# Altium footprint library Motorized_Blinds_PcbLib.PcbLib: 34 footprints (part 2 of 3)
Each footprint in its own frame and in the unit in brackets; x right, y up, seen from the top. Pads: shape width x height; smd on the part's side, far side on the other; paste and mask are expansions set on the pad; w line width, h text height; cw(c..) or ccw(c..) is an arc to the next point about the centre after c.
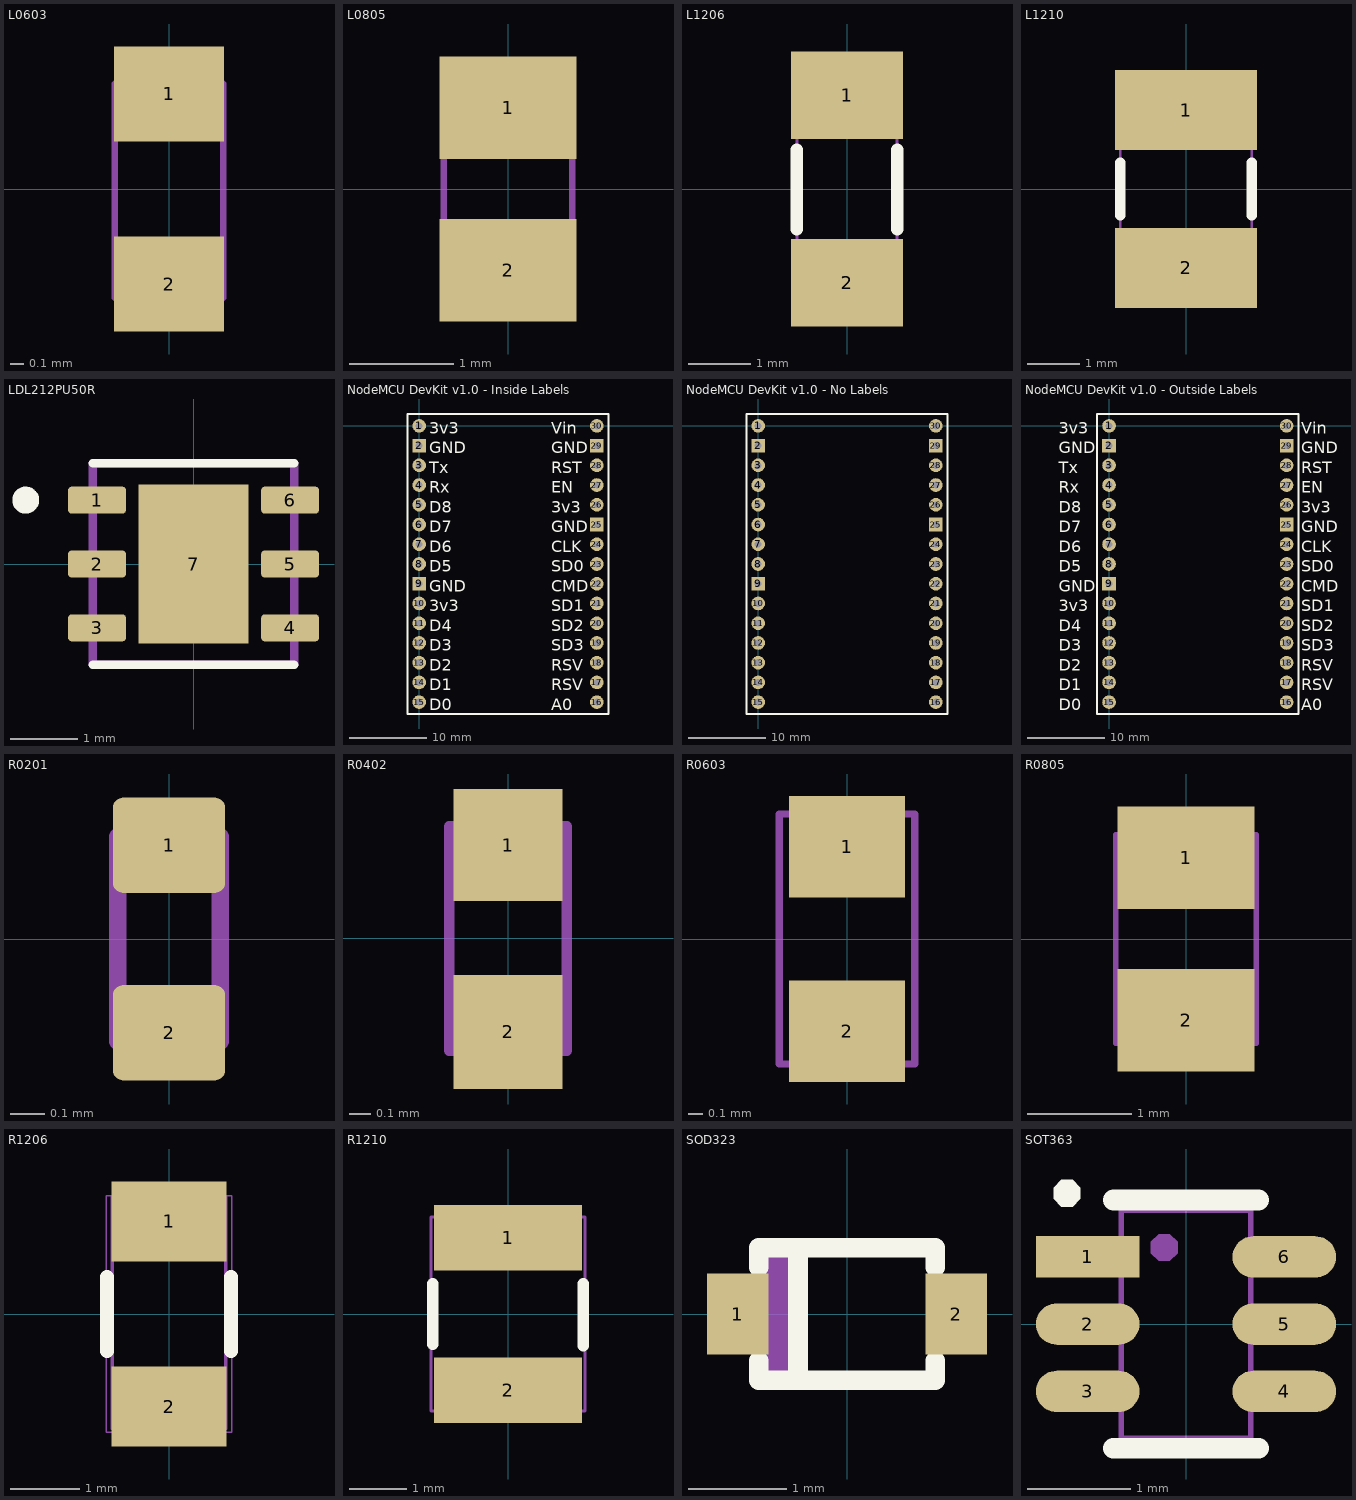
[diagram p1: the footprints below, top view; thin cyan lines are the x and y axes]

## L0603 [mm]
height 0.9
pads (2):
  rect 0.81x0.7 smd: 1(0,0.7) 2(0,-0.7)
Mechanical 3:
  lines w0.051: -0.4,-0.8 0.4,-0.8 0.4,0.775 -0.4,0.775 -0.4,-0.8
  text ".Designator" at 0.65,-0.95 h0.77
Mechanical 20:
  lines w0.025: -0.4,-0.8 0.4,-0.8 0.4,0.775 -0.4,0.775 -0.4,-0.8
3D body "0603 Ferrite bead.SLDPRT": height 0.81, standoff 0.01, extent -0.4,-0.8 0.4,0.8

## L0805 [mm]
height 1.4
pads (2):
  rect 1.32x0.98 smd: 1(0,0.78) 2(0,-0.78)
Mechanical 3:
  lines w0.051: -0.625,-1 0.625,-1 0.625,1 -0.625,1 -0.625,-1
  text ".Designator" at 0.65,-1.2 h0.84
Mechanical 20:
  lines w0.025: -0.6,-1 0.6,-1 0.6,1 -0.6,1 -0.6,-1
3D body "0805 Ferrite bead.SLDPRT": height 0.91, standoff 0.01, extent -0.6,-1 0.6,1

## L1206 [mm]
height 1.78
pads (2):
  rect 1.8x1.4 smd: 1(0,1.5) 2(0,-1.5)
Top Overlay:
  lines w0.2: -0.8,-0.645 -0.8,0.625 ; 0.8,-0.645 0.8,0.625
Mechanical 3:
  lines w0.051: -0.8,-1.6 -0.8,1.6 0.8,1.6 0.8,-1.6 -0.8,-1.6
  text ".Designator" at 0.65,-1.9 h0.77
Mechanical 20:
  lines w0.025: -0.8,-1.6 -0.8,1.625 0.8,1.625 0.8,-1.6 -0.8,-1.6
3D body "1206 Ferrite bead.SLDPRT": height 1.31, standoff 0.01, extent -0.8,-1.6 0.8,1.6

## L1210 [mm]
height 2.29
pads (2):
  rect 2.7x1.52 smd: 1(0,1.5) 2(0,-1.5)
Top Overlay:
  lines w0.2: -1.25,-0.5 -1.25,0.5 ; 1.25,-0.5 1.25,0.5
Mechanical 3:
  lines w0.051: -1.25,-1.6 -1.25,1.6 1.25,1.6 1.25,-1.6 -1.25,-1.6
  text ".Designator" at 0.7,-1.8 h0.77
Mechanical 20:
  lines w0.025: -1.25,-1.6 -1.25,1.6 1.25,1.6 1.25,-1.6 -1.25,-1.6
3D body "1210 Ferrite bead.SLDPRT": height 1.31, standoff 0.01, extent -1.25,-1.6 1.25,1.6

## LDL212PU50R [mm] "IC REG LINEAR 5V 1.2A 6DFN"
height 0.9
pads (7):
  rrect25% 0.86x0.4 smd: 1(-1.435,0.95) 2(-1.435,0) 3(-1.435,-0.95) 4(1.435,-0.95) 5(1.435,0) 6(1.435,0.95)
  rect 1.63x2.37 smd paste-2: 7(0,0)
Top Overlay:
  circle w0.2: c-2.495,0.95 r0.1
  lines w0.127: -1.5,-1.5 1.5,-1.5 ; -1.5,1.5 1.5,1.5
Mechanical 3:
  lines w0.127: -1.5,-1.5 1.5,-1.5 1.5,1.5 -1.5,1.5 -1.5,-1.5
  text ".Designator" at -0.656,-0.017 h0.44
3D body "step_temp.STEP": height 1.04, standoff 0.04, extent -1.5,-1.5 1.5,1.5

## NodeMCU DevKit v1.0 - Inside Labels [mil]
pads (30):
  round 69 hole 35: 1(0,0) 3(0,-200) 4(0,-300) 5(0,-400) 6(0,-500) 7(0,-600) 8(0,-700) 10(0,-900) 11(0,-1000) 12(0,-1100) 13(0,-1200) 14(0,-1300) 15(0,-1400) 16(900,-1400) 17(900,-1300) 18(900,-1200) 19(900,-1100) 20(900,-1000) 21(900,-900) 22(900,-800) 23(900,-700) 24(900,-600) 26(900,-400) 27(900,-300) 28(900,-200) 30(900,0)
  rect 69x69 hole 35: 2(0,-100) 9(0,-800) 25(900,-500) 29(900,-100)
Top Overlay:
  lines w10: -60,-1460 -60,60 960,60 960,-1460 -60,-1460
  text "3v3" at 50,-39.99 h60
  text "GND" at 50,-139.99 h60
  text "Tx" at 50,-239.99 h60
  text "Rx" at 50,-339.99 h60
  text "D8" at 50,-439.99 h60
  text "D7" at 50,-539.99 h60
  text "D6" at 50,-639.99 h60
  text "D5" at 50,-739.99 h60
  text "GND" at 50,-839.99 h60
  text "3v3" at 50,-939.99 h60
  text "D4" at 50,-1039.99 h60
  text "D3" at 50,-1139.99 h60
  text "D2" at 50,-1239.99 h60
  text "D1" at 50,-1339.99 h60
  text "D0" at 50,-1439.99 h60
  text "A0" at 670,-1439.99 h60
  text "RSV" at 670,-1339.99 h60
  text "RSV" at 670,-1239.99 h60
  text "SD3" at 670,-1139.99 h60
  text "SD2" at 670,-1039.99 h60
  text "SD1" at 670,-939.99 h60
  text "CMD" at 670,-839.99 h60
  text "SD0" at 670,-739.99 h60
  text "CLK" at 670,-639.99 h60
  text "GND" at 670,-539.99 h60
  text "3v3" at 670,-439.99 h60
  text "EN" at 670,-339.99 h60
  text "RST" at 670,-239.99 h60
  text "GND" at 670,-139.99 h60
  text "Vin" at 670,-39.99 h60

## NodeMCU DevKit v1.0 - No Labels [mil]
pads (30):
  round 69 hole 35: 1(0,0) 3(0,-200) 4(0,-300) 5(0,-400) 6(0,-500) 7(0,-600) 8(0,-700) 10(0,-900) 11(0,-1000) 12(0,-1100) 13(0,-1200) 14(0,-1300) 15(0,-1400) 16(900,-1400) 17(900,-1300) 18(900,-1200) 19(900,-1100) 20(900,-1000) 21(900,-900) 22(900,-800) 23(900,-700) 24(900,-600) 26(900,-400) 27(900,-300) 28(900,-200) 30(900,0)
  rect 69x69 hole 35: 2(0,-100) 9(0,-800) 25(900,-500) 29(900,-100)
Top Overlay:
  lines w10: -60,-1460 -60,60 960,60 960,-1460 -60,-1460

## NodeMCU DevKit v1.0 - Outside Labels [mil]
pads (30):
  round 69 hole 35: 1(0,0) 3(0,-200) 4(0,-300) 5(0,-400) 6(0,-500) 7(0,-600) 8(0,-700) 10(0,-900) 11(0,-1000) 12(0,-1100) 13(0,-1200) 14(0,-1300) 15(0,-1400) 16(900,-1400) 17(900,-1300) 18(900,-1200) 19(900,-1100) 20(900,-1000) 21(900,-900) 22(900,-800) 23(900,-700) 24(900,-600) 26(900,-400) 27(900,-300) 28(900,-200) 30(900,0)
  rect 69x69 hole 35: 2(0,-100) 9(0,-800) 25(900,-500) 29(900,-100)
Top Overlay:
  lines w10: -60,-1460 -60,60 960,60 960,-1460 -60,-1460
  text "A0" at 975,-1439.99 h60
  text "RSV" at 975,-1339.99 h60
  text "RSV" at 975,-1239.99 h60
  text "SD3" at 975,-1139.99 h60
  text "SD2" at 975,-1039.99 h60
  text "SD1" at 975,-939.99 h60
  text "CMD" at 975,-839.99 h60
  text "SD0" at 975,-739.99 h60
  text "CLK" at 975,-639.99 h60
  text "GND" at 975,-539.99 h60
  text "3v3" at 975,-439.99 h60
  text "EN" at 975,-339.99 h60
  text "RST" at 975,-239.99 h60
  text "GND" at 975,-139.99 h60
  text "Vin" at 975,-39.99 h60
  text "3v3" at -255,-39.99 h60
  text "GND" at -255,-139.99 h60
  text "Tx" at -255,-239.99 h60
  text "Rx" at -255,-339.99 h60
  text "D8" at -255,-439.99 h60
  text "D7" at -255,-539.99 h60
  text "D6" at -255,-639.99 h60
  text "D5" at -255,-739.99 h60
  text "GND" at -255,-839.99 h60
  text "3v3" at -255,-939.99 h60
  text "D4" at -255,-1039.99 h60
  text "D3" at -255,-1139.99 h60
  text "D2" at -255,-1239.99 h60
  text "D1" at -255,-1339.99 h60
  text "D0" at -255,-1439.99 h60

## R0201 [mm]
height 0.33
pads (2):
  rrect22% 0.33x0.28 smd: 1(0,0.275) 2(0,-0.275)
Mechanical 3:
  lines w0.051: -0.15,-0.3 -0.15,0.3 0.15,0.3 0.15,-0.3 -0.15,-0.3
  text ".Designator" at 0.39,-0.432 h0.44
Mechanical 20:
  lines w0.025: -0.15,-0.3 0.15,-0.3 0.15,0.3 -0.15,0.3 -0.15,-0.3
3D body "User Library-Resistors0201.STEP": height 0.24, standoff -0.01, extent -0.162,-0.325 0.162,0.325

## R0402 [mm]
height 0.4
pads (2):
  rect 0.51x0.525 smd: 1(0,0.437)
  rect 0.51x0.535 smd: 2(0,-0.437)
Mechanical 3:
  lines w0.051: -0.275,-0.525 -0.275,0.525 0.275,0.525 0.275,-0.525 -0.275,-0.525
  text ".Designator" at 0.459,-0.694 h0.53
Mechanical 20:
  lines w0.025: -0.275,-0.525 0.275,-0.525 0.275,0.525 -0.275,0.525 -0.275,-0.525
3D body "r0402_resc1005x40.STEP": height 0.4, standoff 0, extent -0.275,-0.525 0.275,0.525

## R0603 [mm]
height 0.55
pads (2):
  rect 0.81x0.71 smd: 1(0,0.645) 2(0,-0.645)
Mechanical 3:
  lines w0.051: -0.475,-0.875 -0.475,0.875 0.475,0.875 0.475,-0.875 -0.475,-0.875
  text ".Designator" at 0.65,-0.95 h0.77
Mechanical 20:
  lines w0.025: -0.475,-0.875 -0.475,0.875 0.475,0.875 0.475,-0.875 -0.475,-0.875
3D body "r0603_resc1608x55n.STEP": height 0.55, standoff 0, extent -0.475,-0.875 0.475,0.875

## R0805 [mm]
height 0.7
pads (2):
  rect 1.32x0.98 smd: 1(0,0.78) 2(0,-0.78)
Mechanical 3:
  lines w0.051: -0.675,-1 0.675,-1 0.675,1 -0.675,1 -0.675,-1
  text ".Designator" at 0.65,-1.2 h0.84
Mechanical 20:
  lines w0.025: -0.675,-1 0.675,-1 0.675,1 -0.675,1 -0.675,-1
3D body "r0805_resc2012x70.STEP": height 0.7, standoff 0, extent -0.675,-1.1 0.675,1.1

## R1206 [mm]
height 0.7
pads (2):
  rect 1.65x1.145 smd: 1(0,1.33) 2(0,-1.33)
Top Overlay:
  lines w0.2: -0.889,-0.533 -0.889,0.533 ; 0.889,-0.533 0.889,0.533
Mechanical 3:
  lines w0.051: -0.813,-1.65 -0.813,1.675 0.813,1.675 0.813,-1.65 -0.813,-1.65
  text ".Designator" at 0.65,-1.9 h0.77
Mechanical 20:
  lines w0.025: -0.9,-1.7 -0.9,1.7 0.9,1.7 0.9,-1.7 -0.9,-1.7
3D body "r1206_resc3216x70.STEP": height 0.7, standoff 0, extent -0.825,-1.625 0.825,1.625

## R1210 [mm]
height 0.7
pads (2):
  rect 2.59x1.145 smd: 1(0,1.335) 2(0,-1.335)
Top Overlay:
  lines w0.2: -1.321,-0.533 -1.321,0.533 ; 1.321,-0.559 1.321,0.533
Mechanical 3:
  lines w0.051: -1.35,-1.7 -1.35,1.7 1.35,1.7 1.35,-1.7 -1.35,-1.7
  text ".Designator" at 0.7,-1.8 h0.77
Mechanical 20:
  lines w0.025: -1.35,-1.7 -1.35,1.7 1.35,1.7 1.35,-1.7 -1.35,-1.7
3D body "r1210_resc3225x70.STEP": height 0.7, standoff 0, extent -1.35,-1.7 1.35,1.7

## SOD323 [mm]
pads (2):
  rect 0.63x0.83 smd: 1(-1.115,0) 2(1.115,0)
Top Overlay:
  lines w0.2: -0.9,-0.475 -0.9,-0.675 0.9,-0.675 0.9,-0.475 ; -0.9,0.475 -0.9,0.675 0.9,0.675 0.9,0.475 ; -0.5,-0.675 -0.5,0.675
Mechanical 3:
  region: -0.45,-0.675 -0.45,0.675 -0.9,0.675 -0.9,-0.675
  lines w0.051: -0.9,-0.675 0.9,-0.675 0.9,0.675 -0.9,0.675 -0.9,-0.675
  text ".Designator" at -0.5,-0.25 h0.5
3D body "User Library-SOD323F.SLDPRT": height 0.75, standoff -0.01, extent -1.4,-0.675 1.4,0.675

## SOT363 [mm]
pads (6):
  rect 1x0.4 smd: 1(-0.95,0.65)
  oval 1x0.4 smd: 2(-0.95,0) 3(-0.95,-0.65) 4(0.95,-0.65) 5(0.95,0) 6(0.95,0.65)
Top Overlay:
  region: -1.15,1.135 -1.204,1.135 -1.28,1.211 -1.28,1.319 -1.204,1.395 -1.15,1.395 -1.096,1.395 -1.02,1.319 -1.02,1.211 -1.096,1.135
  lines w0.2: -0.7,-1.2 0.7,-1.2 ; -0.7,1.2 0.7,1.2
Mechanical 3:
  region: -0.21,0.61 -0.264,0.61 -0.34,0.686 -0.34,0.794 -0.264,0.87 -0.21,0.87 -0.156,0.87 -0.08,0.794 -0.08,0.686 -0.156,0.61
  lines w0.051: -0.625,-1.1 0.625,-1.1 0.625,1.1 -0.625,1.1 -0.625,-1.1
  text ".Designator" at -0.5,-0.25 h0.84
3D body "User Library-SOT363-2.SLDPRT": height 1.1, standoff 0, extent -1.2,-1.1 1.2,1.1